# Altium footprint library MyElements.PcbLib: 5 footprints
Each footprint in its own frame and in the unit in brackets; x right, y up, seen from the top. Pads: shape width x height; smd on the part's side, far side on the other; paste and mask are expansions set on the pad; w line width, h text height; cw(c..) or ccw(c..) is an arc to the next point about the centre after c.
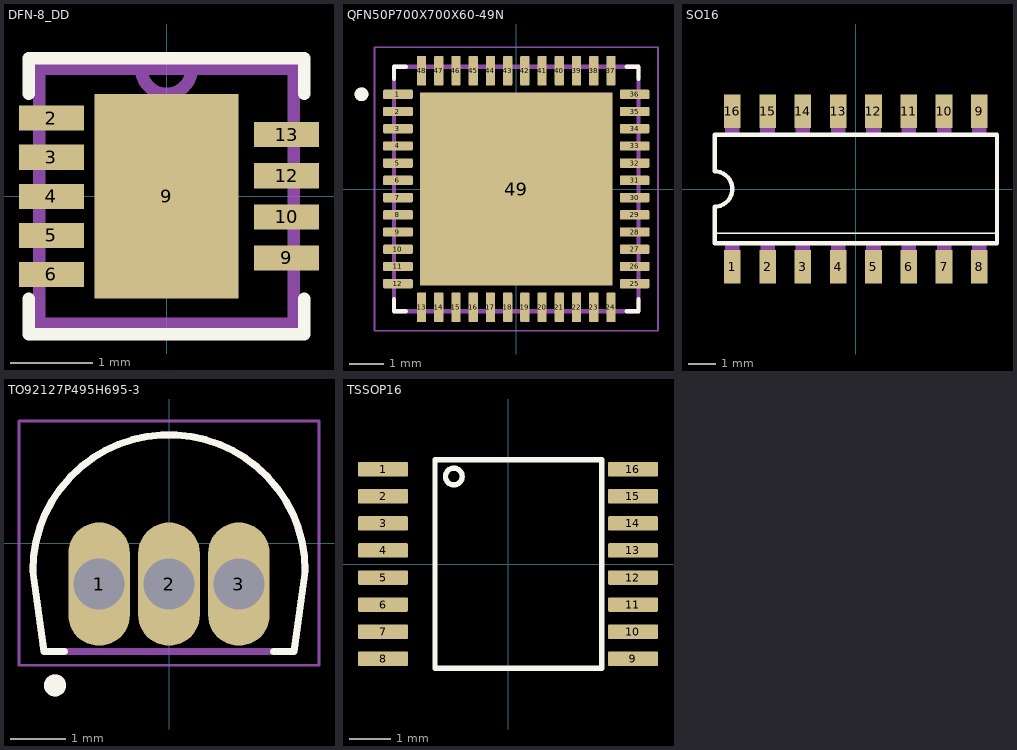
[diagram p0: the footprints below, top view; thin cyan lines are the x and y axes]

## DFN-8_DD [mil]
pads (10):
  rect 31x12 smd: 2(-55.12,37.4) 3(-55.12,18.7) 4(-55.12,0) 5(-55.12,-18.7) 6(-55.12,-37.4) 9(57.5,-29.53) 10(57.5,-9.84) 12(57.5,9.84) 13(57.5,29.53)
  rect 69x98 smd paste-78.74: 9(0,0)
Top Overlay:
  lines w6: -66,-49 -66,-66 66,-66 66,-49 ; -66,49 -66,66 66,66 66,49
Top Paste:
  region: 34.5,-49 -34.5,-49 -34.5,49 34.5,49
Mechanical 13:
  lines w6: -12,61 ccw(c0,61) 12,61 ; -12,61 -61,61 -61,-61 61,-61 61,61 12,61 ; -12,61 12,61
3D body "AMG8833--3DModel-STEP-56544.STEP": height 169.29, standoff 0, extent -157.48,-229.33 157.48,227.37

## QFN50P700X700X60-49N [mm]
pads (49):
  rrect25% 0.86x0.27 smd: 1(-3.435,2.75) 2(-3.435,2.25) 3(-3.435,1.75) 4(-3.435,1.25) 5(-3.435,0.75) 6(-3.435,0.25) 7(-3.435,-0.25) 8(-3.435,-0.75) 9(-3.435,-1.25) 10(-3.435,-1.75) 11(-3.435,-2.25) 12(-3.435,-2.75) 25(3.435,-2.75) 26(3.435,-2.25) 27(3.435,-1.75) 28(3.435,-1.25) 29(3.435,-0.75) 30(3.435,-0.25) 31(3.435,0.25) 32(3.435,0.75) 33(3.435,1.25) 34(3.435,1.75) 35(3.435,2.25) 36(3.435,2.75)
  rrect25% 0.27x0.86 smd: 13(-2.75,-3.435) 14(-2.25,-3.435) 15(-1.75,-3.435) 16(-1.25,-3.435) 17(-0.75,-3.435) 18(-0.25,-3.435) 19(0.25,-3.435) 20(0.75,-3.435) 21(1.25,-3.435) 22(1.75,-3.435) 23(2.25,-3.435) 24(2.75,-3.435) 37(2.75,3.435) 38(2.25,3.435) 39(1.75,3.435) 40(1.25,3.435) 41(0.75,3.435) 42(0.25,3.435) 43(-0.25,3.435) 44(-0.75,3.435) 45(-1.25,3.435) 46(-1.75,3.435) 47(-2.25,3.435) 48(-2.75,3.435)
  rect 5.6x5.6 smd paste-4: 49(0,0)
Top Overlay:
  circle w0.2: c-4.495,2.75 r0.1
  lines w0.127: -3.55,-3.205 -3.55,-3.55 -3.205,-3.55 ; -3.55,3.205 -3.55,3.55 -3.205,3.55 ; 3.205,-3.55 3.55,-3.55 3.55,-3.205 ; 3.205,3.55 3.55,3.55 3.55,3.205
Top Paste:
  region: 2.29,-2.29 0.51,-2.29 0.51,-0.51 2.29,-0.51
  region: -0.51,-2.29 -2.29,-2.29 -2.29,-0.51 -0.51,-0.51
  region: 2.29,0.51 0.51,0.51 0.51,2.29 2.29,2.29
  region: -0.51,0.51 -2.29,0.51 -2.29,2.29 -0.51,2.29
Mechanical 13:
  circle w0.2: c-4.495,2.75 r0.1
  lines w0.127: -3.55,-3.55 -3.55,3.55 3.55,3.55 3.55,-3.55 -3.55,-3.55
Mechanical 15:
  lines w0.05: -4.115,-4.115 -4.115,4.115 4.115,4.115 4.115,-4.115 -4.115,-4.115
3D body "STM32F411CEU6--3DModel-STEP-56544.STEP": height 0.6, standoff 0, extent -3.525,-3.5 3.475,3.5

## SO16 [mm]
pads (16):
  rect 0.6x1.2 smd: 1(-4.445,-2.8) 2(-3.175,-2.8) 3(-1.905,-2.8) 4(-0.635,-2.8) 5(0.635,-2.8) 6(1.905,-2.8) 7(3.175,-2.8) 8(4.445,-2.8) 9(4.445,2.8) 10(3.175,2.8) 11(1.905,2.8) 12(0.635,2.8) 13(-0.635,2.8) 14(-1.905,2.8) 15(-3.175,2.8) 16(-4.445,2.8)
Top Overlay:
  lines w0.051: -5.08,-1.6 5.08,-1.6
  lines w0.152: -5.08,-1.956 -5.08,-0.635 ccw(c-5.08,0) -5.08,0.635 -5.08,1.956 5.08,1.956 5.08,-1.956 -5.08,-1.956
Mechanical 13:
  region: 4.699,1.957 4.193,1.957 4.193,3.099 4.699,3.099
  region: 3.429,1.96 2.927,1.96 2.927,3.099 3.429,3.099
  region: 2.159,1.959 1.654,1.959 1.654,3.099 2.159,3.099
  region: 0.889,1.957 0.381,1.957 0.381,3.099 0.889,3.099
  region: 4.699,-3.1 4.193,-3.1 4.193,-1.956 4.699,-1.956
  region: 3.429,-3.1 2.922,-3.1 2.922,-1.956 3.429,-1.956
  region: 2.159,-3.101 1.652,-3.101 1.652,-1.956 2.159,-1.956
  region: 0.889,-3.1 0.381,-3.1 0.381,-1.956 0.889,-1.956
  region: -4.191,1.958 -4.703,1.958 -4.703,3.099 -4.191,3.099
  region: -2.921,1.957 -3.431,1.957 -3.431,3.099 -2.921,3.099
  region: -1.651,1.957 -2.16,1.957 -2.16,3.099 -1.651,3.099
  region: -0.381,-3.105 -0.891,-3.105 -0.891,-1.956 -0.381,-1.956
  region: -1.651,-3.074 -2.159,-3.074 -2.159,-1.93 -1.651,-1.93
  region: -2.921,-3.099 -3.429,-3.099 -3.429,-1.956 -2.921,-1.956
  region: -4.191,-3.1 -4.7,-3.1 -4.7,-1.956 -4.191,-1.956
  region: -0.381,1.959 -0.89,1.959 -0.89,3.099 -0.381,3.099
3D body "ADM3052BRWZ-REEL7--3DModel-STEP-56544.STEP": height 1.2, standoff -1.1, extent -5.15,-3.475 5.15,3.525

## TO92127P495H695-3 [mm]
pads (3):
  oval 1.12x2.24 hole 0.93: 1(-1.27,-0.745) 2(0,-0.745) 3(1.27,-0.745)
Top Overlay:
  circle w0.2: c-2.07,-2.585 r0.1
  lines w0.127: -1.9,-1.97 -2.27,-1.97 -2.475,-0.505 cw(c0,-0.505) 2.475,-0.505 2.27,-1.97 1.9,-1.97
Mechanical 13:
  circle w0.2: c-2.07,-2.585 r0.1
  lines w0.127: -2.475,-0.505 cw(c0,-0.505) 2.475,-0.505 2.27,-1.97 -2.27,-1.97 -2.475,-0.505
Mechanical 15:
  lines w0.05: -2.725,-2.22 2.725,-2.22 2.725,2.22 -2.725,2.22 -2.725,-2.22
3D body "DS18B20--3DModel-STEP-56544.STEP": height 20.45, standoff 0, extent -2.285,-1.919 2.285,1.7

## TSSOP16 [mm]
pads (16):
  rrect20% 1.2x0.35 smd: 1(-3,2.275) 2(-3,1.625) 3(-3,0.975) 4(-3,0.325) 5(-3,-0.325) 6(-3,-0.975) 7(-3,-1.625) 8(-3,-2.275) 9(3,-2.275) 10(3,-1.625) 11(3,-0.975) 12(3,-0.325) 13(3,0.325) 14(3,0.975) 15(3,1.625) 16(3,2.275)
Top Overlay:
  circle w0.127: c-1.3,2.1 r0.2
  lines w0.127: -1.75,-2.5 2.25,-2.5 2.25,2.5 -1.75,2.5 -1.75,-2.5
3D body "SOP65P640X110-16N__MO-153__NXP__TSSOP-16__NA--3DModel-Eagle-1.STEP": height 0.87, standoff -0.23, extent -3.13,-2.475 3.275,2.525